# EAGLE library part IC_UC_PIC12F1822 (library dp_devices)
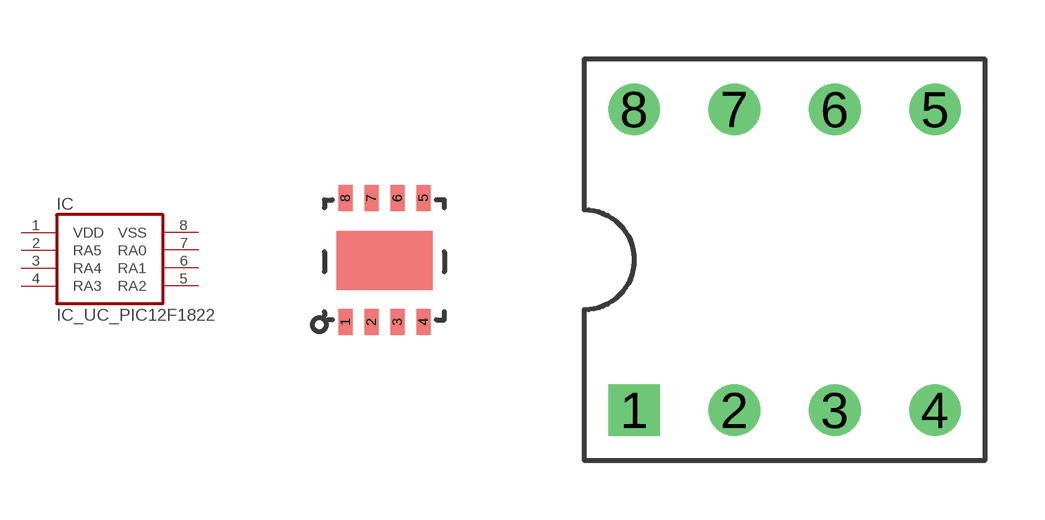
[diagram p69: symbol with the pads of DFN6_3X3; footprints DFN6_3X3, DIP8]

Designator prefix IC

## IC_UC_PIC12F1822DFN6_3X3  [DFN6_3X3]
1  VDD  pwr
2  RA5
3  RA4
4  RA3
5  RA2
6  RA1
7  RA0
8  VSS  pwr

## IC_UC_PIC12F1822DIP8  [DIP8]
Pads as for DFN6_3X3

## Footprint DFN6_3X3 (pad centres in mm)
smd 0.35 x 0.65: 1 -0.975,-1.55; 2 -0.325,-1.55; 3 0.325,-1.55; 4 0.975,-1.55; 5 0.975,1.55; 6 0.325,1.55; 7 -0.325,1.55; 8 -0.975,1.55

## Footprint DIP8 (pad centres in mm)
drill 0.8 square: 1 -3.81,-3.81
drill 0.8 round: 2 -1.27,-3.81; 3 1.27,-3.81; 4 3.81,-3.81; 5 3.81,3.81; 6 1.27,3.81; 7 -1.27,3.81; 8 -3.81,3.81